# EAGLE library part AD5541A (library mylibrary)
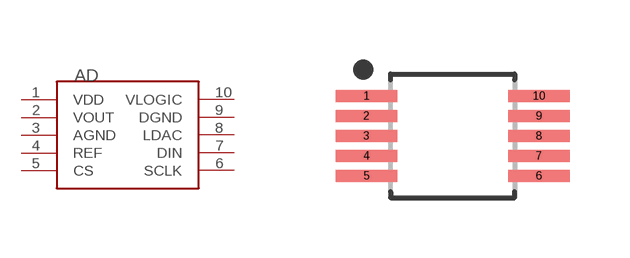
[diagram p3: symbol with the pads of SOP50P490X110-10; footprint SOP50P490X110-10]

Designator prefix AD

## AD5541AN  [SOP50P490X110-10]
1  VDD
2  VOUT
3  AGND
4  REF
5  CS
6  SCLK
7  DIN
8  LDAC
9  DGND
10  VLOGIC

## Footprint SOP50P490X110-10 (pad centres in mm)
10-SOP, 0.5 mm pitch, 4.9 mm span, 3 X 3 X 1.1 mm body 10-pin SOP package with 0.5 mm pitch, 4.9 mm span with body size 3 X 3 X 1.1 mm
smd 1.55 x 0.297: 1 -2.156,1; 2 -2.156,0.5; 3 -2.156,0; 4 -2.156,-0.5; 5 -2.156,-1; 6 2.156,-1; 7 2.156,-0.5; 8 2.156,0; 9 2.156,0.5; 10 2.156,1